# EAGLE library part ISO1540DR (library Texas Instruments)
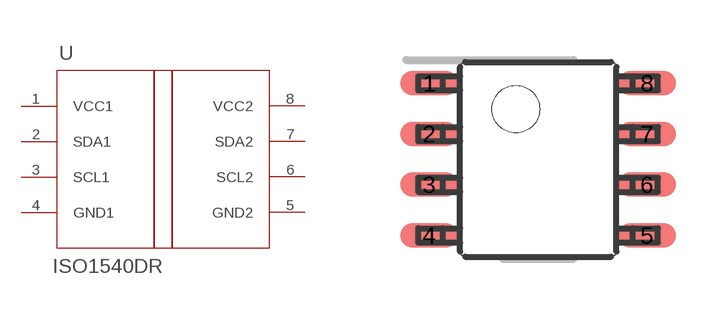
[diagram p9: symbol with the pads of D0008A_N; footprint D0008A_N]

Designator prefix U

## ISO1540DR (ALTERNATEPARTNUMBER: ISO1540D; COMPTYPE: IC; MANUFACTURER: Texas Instruments; MOUNTTYPE: SMT; PACKAGEREFERENCE: D0008A; PARTNUMBER: ISO1540DR; PIN_COUNT: 8; REFDES: RefDes; ROHS: Y; TYPE: TYPE; VALUE: Value)  [D0008A_N]
1  VCC1  pwr
2  SDA1
3  SCL1  in
4  GND1  pwr
5  GND2  pwr
6  SCL2  out
7  SDA2
8  VCC2  pwr

## Footprint D0008A_N (pad centres in mm)
smd 1.448 x 0.61: 1 -2.725,1.905; 2 -2.725,0.635; 3 -2.725,-0.635; 4 -2.725,-1.905; 5 2.725,-1.905; 6 2.725,-0.635; 7 2.725,0.635; 8 2.725,1.905